# Altium footprint library 10MQ040N.PcbLib: 1 footprints
Each footprint in its own frame and in the unit in brackets; x right, y up, seen from the top. Pads: shape width x height; smd on the part's side, far side on the other; paste and mask are expansions set on the pad; w line width, h text height; cw(c..) or ccw(c..) is an arc to the next point about the centre after c.
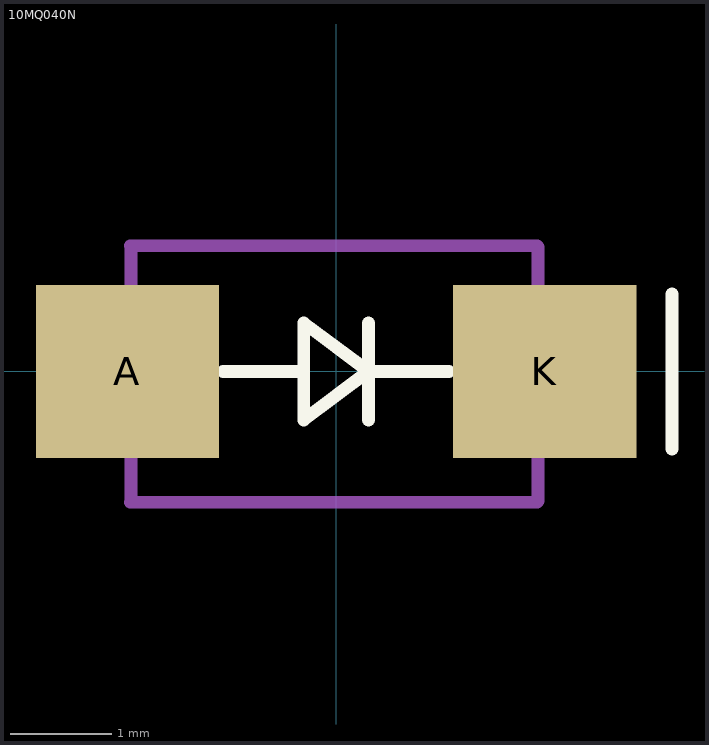
[diagram p0: the footprint, top view; thin cyan lines are the x and y axes]

## 10MQ040N [mm]
pads (2):
  rect 1.8x1.7 smd: A(-2.05,0) K(2.05,0)
Top Overlay:
  lines w0.127: -1.111,0 -0.318,0 ; 0.318,-0.476 0.318,0 ; 0.318,0.476 0.318,0 ; 1.111,0 0.318,0 ; 3.302,-0.762 3.302,0.762 ; -0.318,0 -0.318,0.476 0.318,0 ; -0.318,0 -0.318,-0.476 0.318,0
Mechanical 13:
  region: -1.987,-0.635 -2.781,-0.635 -2.781,0.635 -1.987,0.635
  region: 2.731,-0.635 1.937,-0.635 1.937,0.635 2.731,0.635
  lines w0.127: -2.023,-1.285 1.973,-1.285 ; -2.023,1.235 1.973,1.235 ; -2.015,-1.272 -2.015,1.222 ; 1.985,-1.272 1.985,1.222
3D body "10MQ040NTR.STEP": height 2.29, standoff 0, extent -2.553,-1.333 2.553,1.333